# Altium footprint library ADM758.PcbLib: 1 footprints
Each footprint in its own frame and in the unit in brackets; x right, y up, seen from the top. Pads: shape width x height; smd on the part's side, far side on the other; paste and mask are expansions set on the pad; w line width, h text height; cw(c..) or ccw(c..) is an arc to the next point about the centre after c.
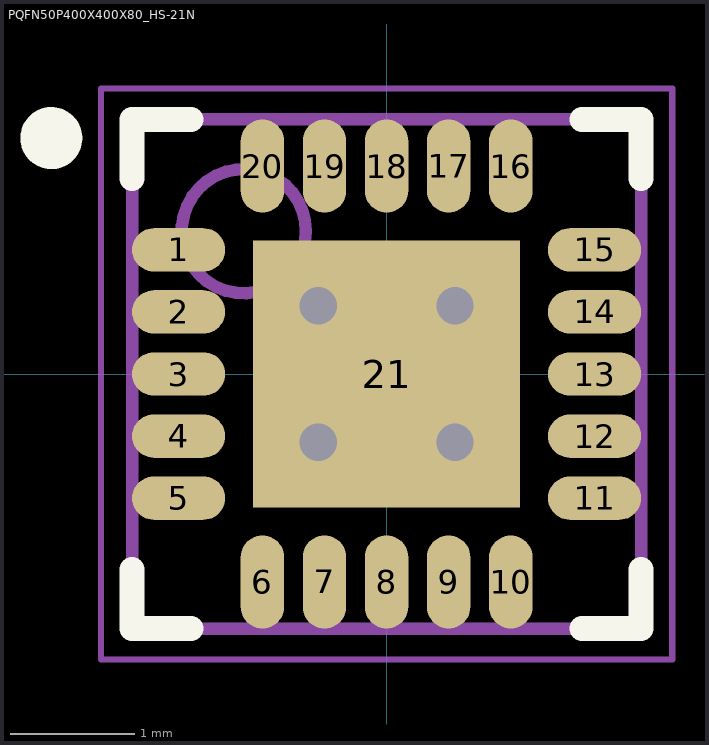
[diagram p0: the footprint, top view; thin cyan lines are the x and y axes]

## PQFN50P400X400X80_HS-21N [mm] "PQFN, 20-Leads, Body 4.00x4.00mm, Pitch 0.50mm, Thermal Pad 2.15x2.15mm, IPC Medium Density"
height 0.8
pads (21):
  oval 0.75x0.35 smd: 1(-1.675,1) 2(-1.675,0.5) 3(-1.675,0) 4(-1.675,-0.5) 5(-1.675,-1) 11(1.675,-1) 12(1.675,-0.5) 13(1.675,0) 14(1.675,0.5) 15(1.675,1)
  oval 0.35x0.75 smd: 6(-1,-1.675) 7(-0.5,-1.675) 8(0,-1.675) 9(0.5,-1.675) 10(1,-1.675) 16(1,1.675) 17(0.5,1.675) 18(0,1.675) 19(-0.5,1.675) 20(-1,1.675)
  rect 2.15x2.15 smd: 21(0,0)
via 0.55,-0.55 diameter 0.7 hole 0.3
via -0.55,-0.55 diameter 0.7 hole 0.3
via 0.55,0.55 diameter 0.7 hole 0.3
via -0.55,0.55 diameter 0.7 hole 0.3
Top Overlay:
  circle w0.25: c-2.7,1.9 r0.125
  lines w0.2: -2.05,-1.575 -2.05,-2.05 -1.575,-2.05 ; -2.05,1.575 -2.05,2.05 -1.575,2.05 ; 1.575,-2.05 2.05,-2.05 2.05,-1.575 ; 1.575,2.05 2.05,2.05 2.05,1.575
Mechanical 13:
  circle w0.1: c-1.15,1.15 r0.5
  lines w0.1: -2.05,-2.05 2.05,-2.05 2.05,2.05 -2.05,2.05 -2.05,-2.05
Mechanical 15:
  lines w0.05: -2.3,-2.3 2.3,-2.3 2.3,2.3 -2.3,2.3 -2.3,-2.3
  lines w0.1: -0.5,0 0.5,0 ; 0,-0.5 0,0.5
3D body "PQFN50P400X400X80_HS-21N.step": height 0.8, standoff 0, extent -2.05,-2.05 2.05,2.05